# Altium schematic symbol library RF.Limiters.SchLib: 4 symbols
Pins are listed as number, name and electrical type; pins without a type are passive.

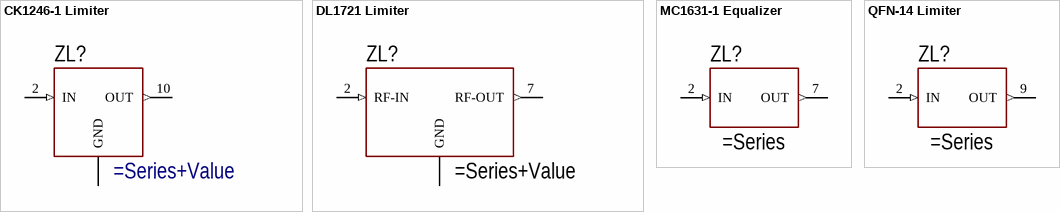
[diagram p0: symbols CK1246-1 Limiter to QFN-14 Limiter]

## CK1246-1 Limiter
designator ZL?
RF Limiter, 16-Lead Package
pins: 1 GND, 2 IN (in), 3 GND hidden to GND, 4 GND hidden to GND, 5 GND hidden to GND, 6 GND hidden to GND, 7 GND hidden to GND, 8 GND hidden to GND, 9 GND hidden to GND, 10 OUT (out), 11 GND hidden to GND, 12 GND hidden to GND, 13 GND hidden to GND, 14 GND hidden to GND, 15 GND hidden to GND, 16 GND hidden to GND

## DL1721 Limiter
designator ZL?
RF Limiter, 8-Lead Package with Exposed Pad
pins: 1 GND hidden to GND, 2 RF-IN (in), 3 GND hidden to GND, 4 GND, 5 GND hidden to GND, 6 GND hidden to GND, 7 RF-OUT (out), 8 GND hidden to GND, PAD GND hidden to GND

## MC1631-1 Equalizer
designator ZL?
MC1631-1 Equalizer Schematic Symbol
pins: 1 GND hidden to GND, 2 IN (in), 3 GND hidden to GND, 4 GND hidden to GND, 5 GND hidden to GND, 6 GND hidden to GND, 7 OUT (out), 8 GND hidden to GND, PAD GND hidden to GND

## QFN-14 Limiter
designator ZL?
QFN-14 Limiter Schematic Symbol
pins: 2 IN (in), 4 GND hidden to GND, 5 GND hidden to GND, 6 GND hidden to GND, 7 GND hidden to GND, 9 OUT (out), 11 GND hidden to GND, 12 GND hidden to GND, 13 GND hidden to GND, 14 GND hidden to GND, PAD GND hidden to GND